# EAGLE library part 74VHC86 (library 030Card)
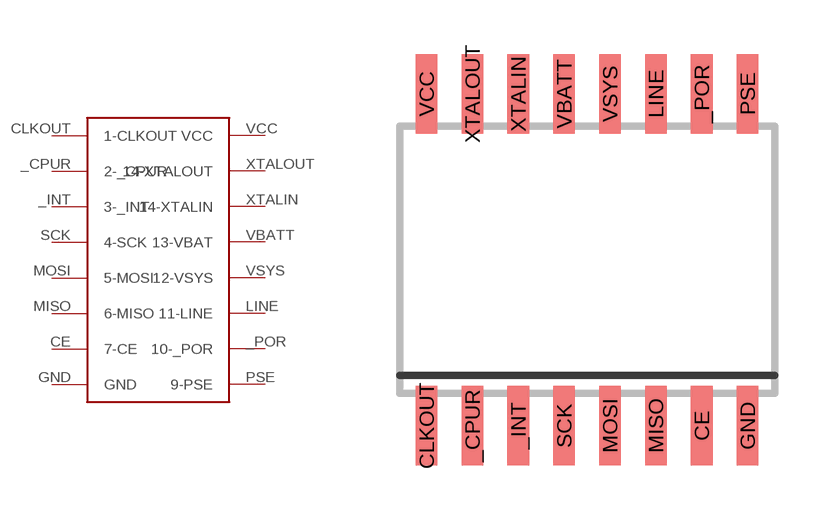
[diagram p6: symbol with the pads of 74-86; footprint 74-86]

Designator prefix -

## 74VHC86  [74-86]
_CPUR  2-_CPUR
_INT  3-_INT
_POR  10-_POR
CE  7-CE
CLKOUT  1-CLKOUT
GND  GND
LINE  11-LINE
MISO  6-MISO
MOSI  5-MOSI
PSE  9-PSE
SCK  4-SCK
VBATT  13-VBAT
VCC  VCC
VSYS  12-VSYS
XTALIN  14-XTALIN
XTALOUT  14-XTALOUT

## Footprint 74-86 (pad centres in mm)
SOIC 16 DW SUFFIX PLASTIC SOIC PACKAGE CASE 751G-03 ISSUE B http://www.onsemi.com/pub/Collateral/MC14536B-D.PDF
smd 0.6 x 2.2: _CPUR -3.175,-4.6; _INT -1.905,-4.6; _POR 3.175,4.6; CE 3.175,-4.6; CLKOUT -4.445,-4.6; GND 4.445,-4.6; LINE 1.905,4.6; MISO 1.905,-4.6; MOSI 0.635,-4.6; PSE 4.445,4.6; SCK -0.635,-4.6; VBATT -0.635,4.6; VCC -4.445,4.6; VSYS 0.635,4.6; XTALIN -1.905,4.6; XTALOUT -3.175,4.6